# Altium schematic symbol library WE-TVSP.SchLib: 358 symbols (part 3 of 7)
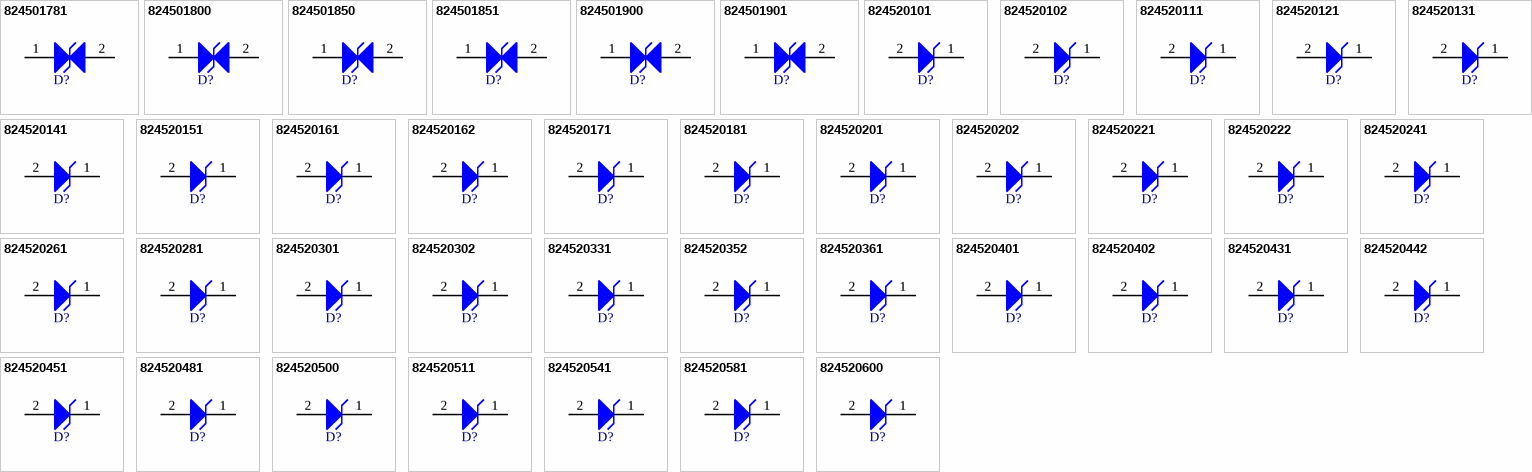
[diagram p10: symbols 824501781 to 824520600]

## 824520401
designator D?, comment 600W, 40VDC  (value not drawn)
WE-TVSP SMT Power TVS Diode, DO-214AA, Unidirectional, 600W, 40VDC; Manufacturer Part Number: 824520401; Manufacturer: Wurth Elektronik; Clamping Voltage: 64.5V; Operating Voltage (DC): 40V; (Reverse) Breakdown Voltage: 46.75V; (Reverse) Peak Pulse Current: 9.3A; ComponentLink1Description: Website Link; ComponentLink1URL: https://www.we-online.com/redexpert/article/824520401?ad; ComponentLink2Description: Datasheet Link; ComponentLink2URL: https://www.we-online.com/redexpert/spec/824520401?ad; Category: Surge Protection; Match Code: WE-TVSP; Mount: Surface Mount; Operating Temperature Max: 150°C; Operating Temperature Min: -65°C; Packaging: Tape and Reel; Case/Size Code: DO-214AA; Length: 4.32mm; Width: 3.62mm; Height: 2.4mm; Polarity: Unidirectional; Power Dissipation: 600W
footprint WE-TVSP_DO-214AA_Unidirectional
pins: 1 K, 2 A

## 824520402
designator D?, comment 600W, 400VDC  (value not drawn)
WE-TVSP SMT Power TVS Diode, DO-214AA, Unidirectional, 600W, 400VDC; Manufacturer Part Number: 824520402; Manufacturer: Wurth Elektronik; Clamping Voltage: 648V; Operating Voltage (DC): 400V; (Reverse) Breakdown Voltage: 470.5V; (Reverse) Peak Pulse Current: 0.9A; ComponentLink1Description: Website Link; ComponentLink1URL: https://www.we-online.com/redexpert/article/824520402?ad; ComponentLink2Description: Datasheet Link; ComponentLink2URL: https://www.we-online.com/redexpert/spec/824520402?ad; Category: Surge Protection; Match Code: WE-TVSP; Mount: Surface Mount; Operating Temperature Max: 150°C; Operating Temperature Min: -65°C; Packaging: Tape and Reel; Case/Size Code: DO-214AA; Length: 4.32mm; Width: 3.62mm; Height: 2.4mm; Polarity: Unidirectional; Power Dissipation: 600W
footprint WE-TVSP_DO-214AA_Unidirectional
pins: 1 K, 2 A

## 824520431
designator D?, comment 600W, 43VDC  (value not drawn)
WE-TVSP SMT Power TVS Diode, DO-214AA, Unidirectional, 600W, 43VDC; Manufacturer Part Number: 824520431; Manufacturer: Wurth Elektronik; Clamping Voltage: 69.4V; Operating Voltage (DC): 43V; (Reverse) Breakdown Voltage: 50.3V; (Reverse) Peak Pulse Current: 8.7A; ComponentLink1Description: Website Link; ComponentLink1URL: https://www.we-online.com/redexpert/article/824520431?ad; ComponentLink2Description: Datasheet Link; ComponentLink2URL: https://www.we-online.com/redexpert/spec/824520431?ad; Category: Surge Protection; Match Code: WE-TVSP; Mount: Surface Mount; Operating Temperature Max: 150°C; Operating Temperature Min: -65°C; Packaging: Tape and Reel; Case/Size Code: DO-214AA; Length: 4.32mm; Width: 3.62mm; Height: 2.4mm; Polarity: Unidirectional; Power Dissipation: 600W
footprint WE-TVSP_DO-214AA_Unidirectional
pins: 1 K, 2 A

## 824520442
designator D?, comment 600W, 440VDC  (value not drawn)
WE-TVSP SMT Power TVS Diode, DO-214AA, Unidirectional, 600W, 440VDC; Manufacturer Part Number: 824520442; Manufacturer: Wurth Elektronik; Clamping Voltage: 713V; Operating Voltage (DC): 440V; (Reverse) Breakdown Voltage: 517.5V; (Reverse) Peak Pulse Current: 0.9A; ComponentLink1Description: Website Link; ComponentLink1URL: https://www.we-online.com/redexpert/article/824520442?ad; ComponentLink2Description: Datasheet Link; ComponentLink2URL: https://www.we-online.com/redexpert/spec/824520442?ad; Category: Surge Protection; Match Code: WE-TVSP; Mount: Surface Mount; Operating Temperature Max: 150°C; Operating Temperature Min: -65°C; Packaging: Tape and Reel; Case/Size Code: DO-214AA; Length: 4.32mm; Width: 3.62mm; Height: 2.4mm; Polarity: Unidirectional; Power Dissipation: 600W
footprint WE-TVSP_DO-214AA_Unidirectional
pins: 1 K, 2 A

## 824520451
designator D?, comment 600W, 45VDC  (value not drawn)
WE-TVSP SMT Power TVS Diode, DO-214AA, Unidirectional, 600W, 45VDC; Manufacturer Part Number: 824520451; Manufacturer: Wurth Elektronik; Clamping Voltage: 72.7V; Operating Voltage (DC): 45V; (Reverse) Breakdown Voltage: 52.65V; (Reverse) Peak Pulse Current: 8.3A; ComponentLink1Description: Website Link; ComponentLink1URL: https://www.we-online.com/redexpert/article/824520451?ad; ComponentLink2Description: Datasheet Link; ComponentLink2URL: https://www.we-online.com/redexpert/spec/824520451?ad; Category: Surge Protection; Match Code: WE-TVSP; Mount: Surface Mount; Operating Temperature Max: 150°C; Operating Temperature Min: -65°C; Packaging: Tape and Reel; Case/Size Code: DO-214AA; Length: 4.32mm; Width: 3.62mm; Height: 2.4mm; Polarity: Unidirectional; Power Dissipation: 600W
footprint WE-TVSP_DO-214AA_Unidirectional
pins: 1 K, 2 A

## 824520481
designator D?, comment 600W, 48VDC  (value not drawn)
WE-TVSP SMT Power TVS Diode, DO-214AA, Unidirectional, 600W, 48VDC; Manufacturer Part Number: 824520481; Manufacturer: Wurth Elektronik; Clamping Voltage: 77.4V; Operating Voltage (DC): 48V; (Reverse) Breakdown Voltage: 56.1V; (Reverse) Peak Pulse Current: 7.8A; ComponentLink1Description: Website Link; ComponentLink1URL: https://www.we-online.com/redexpert/article/824520481?ad; ComponentLink2Description: Datasheet Link; ComponentLink2URL: https://www.we-online.com/redexpert/spec/824520481?ad; Category: Surge Protection; Match Code: WE-TVSP; Mount: Surface Mount; Operating Temperature Max: 150°C; Operating Temperature Min: -65°C; Packaging: Tape and Reel; Case/Size Code: DO-214AA; Length: 4.32mm; Width: 3.62mm; Height: 2.4mm; Polarity: Unidirectional; Power Dissipation: 600W
footprint WE-TVSP_DO-214AA_Unidirectional
pins: 1 K, 2 A

## 824520500
designator D?, comment 600W, 5VDC  (value not drawn)
WE-TVSP SMT Power TVS Diode, DO-214AA, Unidirectional, 600W, 5VDC; Manufacturer Part Number: 824520500; Manufacturer: Wurth Elektronik; Clamping Voltage: 9.2V; Operating Voltage (DC): 5V; (Reverse) Breakdown Voltage: 6.7V; (Reverse) Peak Pulse Current: 65.3A; ComponentLink1Description: Website Link; ComponentLink1URL: https://www.we-online.com/redexpert/article/824520500?ad; ComponentLink2Description: Datasheet Link; ComponentLink2URL: https://www.we-online.com/redexpert/spec/824520500?ad; Category: Surge Protection; Match Code: WE-TVSP; Mount: Surface Mount; Operating Temperature Max: 150°C; Operating Temperature Min: -65°C; Packaging: Tape and Reel; Case/Size Code: DO-214AA; Length: 4.32mm; Width: 3.62mm; Height: 2.4mm; Polarity: Unidirectional; Power Dissipation: 600W
footprint WE-TVSP_DO-214AA_Unidirectional
pins: 1 K, 2 A

## 824520511
designator D?, comment 600W, 51VDC  (value not drawn)
WE-TVSP SMT Power TVS Diode, DO-214AA, Unidirectional, 600W, 51VDC; Manufacturer Part Number: 824520511; Manufacturer: Wurth Elektronik; Clamping Voltage: 82.4V; Operating Voltage (DC): 51V; (Reverse) Breakdown Voltage: 59.7V; (Reverse) Peak Pulse Current: 7.3A; ComponentLink1Description: Website Link; ComponentLink1URL: https://www.we-online.com/redexpert/article/824520511?ad; ComponentLink2Description: Datasheet Link; ComponentLink2URL: https://www.we-online.com/redexpert/spec/824520511?ad; Category: Surge Protection; Match Code: WE-TVSP; Mount: Surface Mount; Operating Temperature Max: 150°C; Operating Temperature Min: -65°C; Packaging: Tape and Reel; Case/Size Code: DO-214AA; Length: 4.32mm; Width: 3.62mm; Height: 2.4mm; Polarity: Unidirectional; Power Dissipation: 600W
footprint WE-TVSP_DO-214AA_Unidirectional
pins: 1 K, 2 A

## 824520541
designator D?, comment 600W, 54VDC  (value not drawn)
WE-TVSP SMT Power TVS Diode, DO-214AA, Unidirectional, 600W, 54VDC; Manufacturer Part Number: 824520541; Manufacturer: Wurth Elektronik; Clamping Voltage: 87.1V; Operating Voltage (DC): 54V; (Reverse) Breakdown Voltage: 63.15V; (Reverse) Peak Pulse Current: 6.9A; ComponentLink1Description: Website Link; ComponentLink1URL: https://www.we-online.com/redexpert/article/824520541?ad; ComponentLink2Description: Datasheet Link; ComponentLink2URL: https://www.we-online.com/redexpert/spec/824520541?ad; Category: Surge Protection; Match Code: WE-TVSP; Mount: Surface Mount; Operating Temperature Max: 150°C; Operating Temperature Min: -65°C; Packaging: Tape and Reel; Case/Size Code: DO-214AA; Length: 4.32mm; Width: 3.62mm; Height: 2.4mm; Polarity: Unidirectional; Power Dissipation: 600W
footprint WE-TVSP_DO-214AA_Unidirectional
pins: 1 K, 2 A

## 824520581
designator D?, comment 600W, 58VDC  (value not drawn)
WE-TVSP SMT Power TVS Diode, DO-214AA, Unidirectional, 600W, 58VDC; Manufacturer Part Number: 824520581; Manufacturer: Wurth Elektronik; Clamping Voltage: 93.6V; Operating Voltage (DC): 58V; (Reverse) Breakdown Voltage: 67.8V; (Reverse) Peak Pulse Current: 6.5A; ComponentLink1Description: Website Link; ComponentLink1URL: https://www.we-online.com/redexpert/article/824520581?ad; ComponentLink2Description: Datasheet Link; ComponentLink2URL: https://www.we-online.com/redexpert/spec/824520581?ad; Category: Surge Protection; Match Code: WE-TVSP; Mount: Surface Mount; Operating Temperature Max: 150°C; Operating Temperature Min: -65°C; Packaging: Tape and Reel; Case/Size Code: DO-214AA; Length: 4.32mm; Width: 3.62mm; Height: 2.4mm; Polarity: Unidirectional; Power Dissipation: 600W
footprint WE-TVSP_DO-214AA_Unidirectional
pins: 1 K, 2 A

## 824520600
designator D?, comment 600W, 6VDC  (value not drawn)
WE-TVSP SMT Power TVS Diode, DO-214AA, Unidirectional, 600W, 6VDC; Manufacturer Part Number: 824520600; Manufacturer: Wurth Elektronik; Clamping Voltage: 10.3V; Operating Voltage (DC): 6V; (Reverse) Breakdown Voltage: 7.02V; (Reverse) Peak Pulse Current: 58.3A; ComponentLink1Description: Website Link; ComponentLink1URL: https://www.we-online.com/redexpert/article/824520600?ad; ComponentLink2Description: Datasheet Link; ComponentLink2URL: https://www.we-online.com/redexpert/spec/824520600?ad; Category: Surge Protection; Match Code: WE-TVSP; Mount: Surface Mount; Operating Temperature Max: 150°C; Operating Temperature Min: -65°C; Packaging: Tape and Reel; Case/Size Code: DO-214AA; Length: 4.32mm; Width: 3.62mm; Height: 2.4mm; Polarity: Unidirectional; Power Dissipation: 600W
footprint WE-TVSP_DO-214AA_Unidirectional
pins: 1 K, 2 A

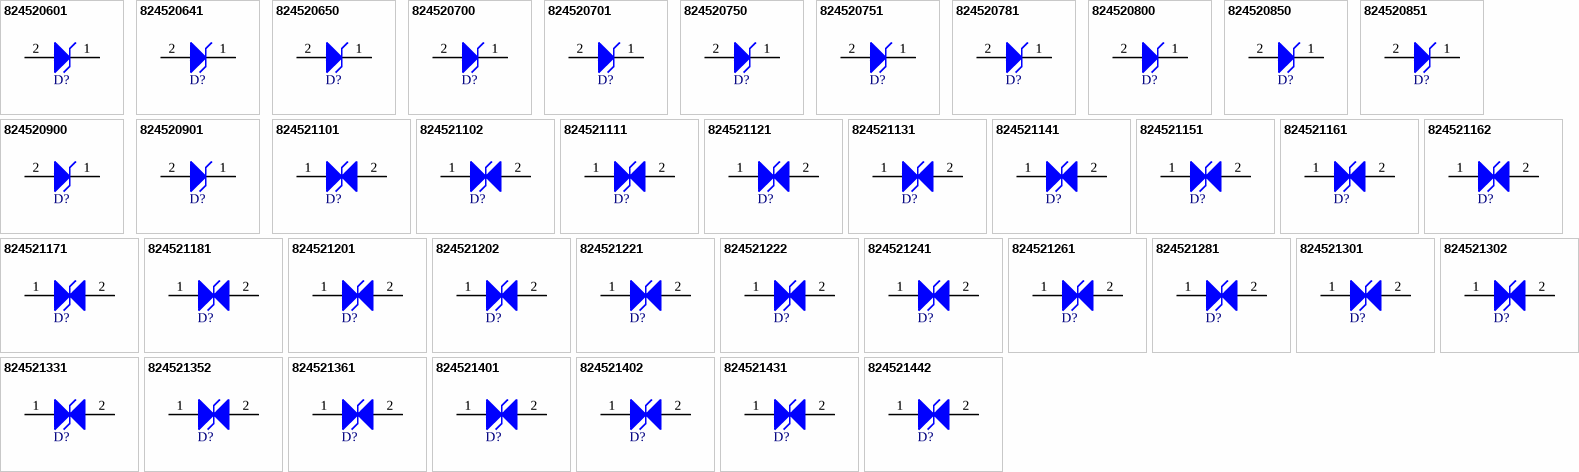
[diagram p3: symbols 824520601 to 824521442]

## 824520601
designator D?, comment 600W, 60VDC  (value not drawn)
WE-TVSP SMT Power TVS Diode, DO-214AA, Unidirectional, 600W, 60VDC; Manufacturer Part Number: 824520601; Manufacturer: Wurth Elektronik; Clamping Voltage: 96.8V; Operating Voltage (DC): 60V; (Reverse) Breakdown Voltage: 70.2V; (Reverse) Peak Pulse Current: 6.2A; ComponentLink1Description: Website Link; ComponentLink1URL: https://www.we-online.com/redexpert/article/824520601?ad; ComponentLink2Description: Datasheet Link; ComponentLink2URL: https://www.we-online.com/redexpert/spec/824520601?ad; Category: Surge Protection; Match Code: WE-TVSP; Mount: Surface Mount; Operating Temperature Max: 150°C; Operating Temperature Min: -65°C; Packaging: Tape and Reel; Case/Size Code: DO-214AA; Length: 4.32mm; Width: 3.62mm; Height: 2.4mm; Polarity: Unidirectional; Power Dissipation: 600W
footprint WE-TVSP_DO-214AA_Unidirectional
pins: 1 K, 2 A

## 824520641
designator D?, comment 600W, 64VDC  (value not drawn)
WE-TVSP SMT Power TVS Diode, DO-214AA, Unidirectional, 600W, 64VDC; Manufacturer Part Number: 824520641; Manufacturer: Wurth Elektronik; Clamping Voltage: 103V; Operating Voltage (DC): 64V; (Reverse) Breakdown Voltage: 74.85V; (Reverse) Peak Pulse Current: 5.9A; ComponentLink1Description: Website Link; ComponentLink1URL: https://www.we-online.com/redexpert/article/824520641?ad; ComponentLink2Description: Datasheet Link; ComponentLink2URL: https://www.we-online.com/redexpert/spec/824520641?ad; Category: Surge Protection; Match Code: WE-TVSP; Mount: Surface Mount; Operating Temperature Max: 150°C; Operating Temperature Min: -65°C; Packaging: Tape and Reel; Case/Size Code: DO-214AA; Length: 4.32mm; Width: 3.62mm; Height: 2.4mm; Polarity: Unidirectional; Power Dissipation: 600W
footprint WE-TVSP_DO-214AA_Unidirectional
pins: 1 K, 2 A

## 824520650
designator D?, comment 600W, 6.5VDC  (value not drawn)
WE-TVSP SMT Power TVS Diode, DO-214AA, Unidirectional, 600W, 6.5VDC; Manufacturer Part Number: 824520650; Manufacturer: Wurth Elektronik; Clamping Voltage: 11.2V; Operating Voltage (DC): 6.5V; (Reverse) Breakdown Voltage: 7.6V; (Reverse) Peak Pulse Current: 53.6A; ComponentLink1Description: Website Link; ComponentLink1URL: https://www.we-online.com/redexpert/article/824520650?ad; ComponentLink2Description: Datasheet Link; ComponentLink2URL: https://www.we-online.com/redexpert/spec/824520650?ad; Category: Surge Protection; Match Code: WE-TVSP; Mount: Surface Mount; Operating Temperature Max: 150°C; Operating Temperature Min: -65°C; Packaging: Tape and Reel; Case/Size Code: DO-214AA; Length: 4.32mm; Width: 3.62mm; Height: 2.4mm; Polarity: Unidirectional; Power Dissipation: 600W
footprint WE-TVSP_DO-214AA_Unidirectional
pins: 1 K, 2 A

## 824520700
designator D?, comment 600W, 7VDC  (value not drawn)
WE-TVSP SMT Power TVS Diode, DO-214AA, Unidirectional, 600W, 7VDC; Manufacturer Part Number: 824520700; Manufacturer: Wurth Elektronik; Clamping Voltage: 12V; Operating Voltage (DC): 7V; (Reverse) Breakdown Voltage: 8.19V; (Reverse) Peak Pulse Current: 50A; ComponentLink1Description: Website Link; ComponentLink1URL: https://www.we-online.com/redexpert/article/824520700?ad; ComponentLink2Description: Datasheet Link; ComponentLink2URL: https://www.we-online.com/redexpert/spec/824520700?ad; Category: Surge Protection; Match Code: WE-TVSP; Mount: Surface Mount; Operating Temperature Max: 150°C; Operating Temperature Min: -65°C; Packaging: Tape and Reel; Case/Size Code: DO-214AA; Length: 4.32mm; Width: 3.62mm; Height: 2.4mm; Polarity: Unidirectional; Power Dissipation: 600W
footprint WE-TVSP_DO-214AA_Unidirectional
pins: 1 K, 2 A

## 824520701
designator D?, comment 600W, 70VDC  (value not drawn)
WE-TVSP SMT Power TVS Diode, DO-214AA, Unidirectional, 600W, 70VDC; Manufacturer Part Number: 824520701; Manufacturer: Wurth Elektronik; Clamping Voltage: 113V; Operating Voltage (DC): 70V; (Reverse) Breakdown Voltage: 81.9V; (Reverse) Peak Pulse Current: 5.3A; ComponentLink1Description: Website Link; ComponentLink1URL: https://www.we-online.com/redexpert/article/824520701?ad; ComponentLink2Description: Datasheet Link; ComponentLink2URL: https://www.we-online.com/redexpert/spec/824520701?ad; Category: Surge Protection; Match Code: WE-TVSP; Mount: Surface Mount; Operating Temperature Max: 150°C; Operating Temperature Min: -65°C; Packaging: Tape and Reel; Case/Size Code: DO-214AA; Length: 4.32mm; Width: 3.62mm; Height: 2.4mm; Polarity: Unidirectional; Power Dissipation: 600W
footprint WE-TVSP_DO-214AA_Unidirectional
pins: 1 K, 2 A

## 824520750
designator D?, comment 600W, 7.5VDC  (value not drawn)
WE-TVSP SMT Power TVS Diode, DO-214AA, Unidirectional, 600W, 7.5VDC; Manufacturer Part Number: 824520750; Manufacturer: Wurth Elektronik; Clamping Voltage: 12.9V; Operating Voltage (DC): 7.5V; (Reverse) Breakdown Voltage: 8.77V; (Reverse) Peak Pulse Current: 46.6A; ComponentLink1Description: Website Link; ComponentLink1URL: https://www.we-online.com/redexpert/article/824520750?ad; ComponentLink2Description: Datasheet Link; ComponentLink2URL: https://www.we-online.com/redexpert/spec/824520750?ad; Category: Surge Protection; Match Code: WE-TVSP; Mount: Surface Mount; Operating Temperature Max: 150°C; Operating Temperature Min: -65°C; Packaging: Tape and Reel; Case/Size Code: DO-214AA; Length: 4.32mm; Width: 3.62mm; Height: 2.4mm; Polarity: Unidirectional; Power Dissipation: 600W
footprint WE-TVSP_DO-214AA_Unidirectional
pins: 1 K, 2 A

## 824520751
designator D?, comment 600W, 75VDC  (value not drawn)
WE-TVSP SMT Power TVS Diode, DO-214AA, Unidirectional, 600W, 75VDC; Manufacturer Part Number: 824520751; Manufacturer: Wurth Elektronik; Clamping Voltage: 121V; Operating Voltage (DC): 75V; (Reverse) Breakdown Voltage: 87.7V; (Reverse) Peak Pulse Current: 5A; ComponentLink1Description: Website Link; ComponentLink1URL: https://www.we-online.com/redexpert/article/824520751?ad; ComponentLink2Description: Datasheet Link; ComponentLink2URL: https://www.we-online.com/redexpert/spec/824520751?ad; Category: Surge Protection; Match Code: WE-TVSP; Mount: Surface Mount; Operating Temperature Max: 150°C; Operating Temperature Min: -65°C; Packaging: Tape and Reel; Case/Size Code: DO-214AA; Length: 4.32mm; Width: 3.62mm; Height: 2.4mm; Polarity: Unidirectional; Power Dissipation: 600W
footprint WE-TVSP_DO-214AA_Unidirectional
pins: 1 K, 2 A

## 824520781
designator D?, comment 600W, 78VDC  (value not drawn)
WE-TVSP SMT Power TVS Diode, DO-214AA, Unidirectional, 600W, 78VDC; Manufacturer Part Number: 824520781; Manufacturer: Wurth Elektronik; Clamping Voltage: 126V; Operating Voltage (DC): 78V; (Reverse) Breakdown Voltage: 91.25V; (Reverse) Peak Pulse Current: 4.8A; ComponentLink1Description: Website Link; ComponentLink1URL: https://www.we-online.com/redexpert/article/824520781?ad; ComponentLink2Description: Datasheet Link; ComponentLink2URL: https://www.we-online.com/redexpert/spec/824520781?ad; Category: Surge Protection; Match Code: WE-TVSP; Mount: Surface Mount; Operating Temperature Max: 150°C; Operating Temperature Min: -65°C; Packaging: Tape and Reel; Case/Size Code: DO-214AA; Length: 4.32mm; Width: 3.62mm; Height: 2.4mm; Polarity: Unidirectional; Power Dissipation: 600W
footprint WE-TVSP_DO-214AA_Unidirectional
pins: 1 K, 2 A

## 824520800
designator D?, comment 600W, 8VDC  (value not drawn)
WE-TVSP SMT Power TVS Diode, DO-214AA, Unidirectional, 600W, 8VDC; Manufacturer Part Number: 824520800; Manufacturer: Wurth Elektronik; Clamping Voltage: 13.6V; Operating Voltage (DC): 8V; (Reverse) Breakdown Voltage: 9.36V; (Reverse) Peak Pulse Current: 44.2A; ComponentLink1Description: Website Link; ComponentLink1URL: https://www.we-online.com/redexpert/article/824520800?ad; ComponentLink2Description: Datasheet Link; ComponentLink2URL: https://www.we-online.com/redexpert/spec/824520800?ad; Category: Surge Protection; Match Code: WE-TVSP; Mount: Surface Mount; Operating Temperature Max: 150°C; Operating Temperature Min: -65°C; Packaging: Tape and Reel; Case/Size Code: DO-214AA; Length: 4.32mm; Width: 3.62mm; Height: 2.4mm; Polarity: Unidirectional; Power Dissipation: 600W
footprint WE-TVSP_DO-214AA_Unidirectional
pins: 1 K, 2 A

## 824520850
designator D?, comment 600W, 8.5VDC  (value not drawn)
WE-TVSP SMT Power TVS Diode, DO-214AA, Unidirectional, 600W, 8.5VDC; Manufacturer Part Number: 824520850; Manufacturer: Wurth Elektronik; Clamping Voltage: 14.4V; Operating Voltage (DC): 8.5V; (Reverse) Breakdown Voltage: 9.92V; (Reverse) Peak Pulse Current: 41.7A; ComponentLink1Description: Website Link; ComponentLink1URL: https://www.we-online.com/redexpert/article/824520850?ad; ComponentLink2Description: Datasheet Link; ComponentLink2URL: https://www.we-online.com/redexpert/spec/824520850?ad; Category: Surge Protection; Match Code: WE-TVSP; Mount: Surface Mount; Operating Temperature Max: 150°C; Operating Temperature Min: -65°C; Packaging: Tape and Reel; Case/Size Code: DO-214AA; Length: 4.32mm; Width: 3.62mm; Height: 2.4mm; Polarity: Unidirectional; Power Dissipation: 600W
footprint WE-TVSP_DO-214AA_Unidirectional
pins: 1 K, 2 A

## 824520851
designator D?, comment 600W, 85VDC  (value not drawn)
WE-TVSP SMT Power TVS Diode, DO-214AA, Unidirectional, 600W, 85VDC; Manufacturer Part Number: 824520851; Manufacturer: Wurth Elektronik; Clamping Voltage: 137V; Operating Voltage (DC): 85V; (Reverse) Breakdown Voltage: 99.2V; (Reverse) Peak Pulse Current: 4.4A; ComponentLink1Description: Website Link; ComponentLink1URL: https://www.we-online.com/redexpert/article/824520851?ad; ComponentLink2Description: Datasheet Link; ComponentLink2URL: https://www.we-online.com/redexpert/spec/824520851?ad; Category: Surge Protection; Match Code: WE-TVSP; Mount: Surface Mount; Operating Temperature Max: 150°C; Operating Temperature Min: -65°C; Packaging: Tape and Reel; Case/Size Code: DO-214AA; Length: 4.32mm; Width: 3.62mm; Height: 2.4mm; Polarity: Unidirectional; Power Dissipation: 600W
footprint WE-TVSP_DO-214AA_Unidirectional
pins: 1 K, 2 A

## 824520900
designator D?, comment 600W, 9VDC  (value not drawn)
WE-TVSP SMT Power TVS Diode, DO-214AA, Unidirectional, 600W, 9VDC; Manufacturer Part Number: 824520900; Manufacturer: Wurth Elektronik; Clamping Voltage: 15.4V; Operating Voltage (DC): 9V; (Reverse) Breakdown Voltage: 10.55V; (Reverse) Peak Pulse Current: 39A; ComponentLink1Description: Website Link; ComponentLink1URL: https://www.we-online.com/redexpert/article/824520900?ad; ComponentLink2Description: Datasheet Link; ComponentLink2URL: https://www.we-online.com/redexpert/spec/824520900?ad; Category: Surge Protection; Match Code: WE-TVSP; Mount: Surface Mount; Operating Temperature Max: 150°C; Operating Temperature Min: -65°C; Packaging: Tape and Reel; Case/Size Code: DO-214AA; Length: 4.32mm; Width: 3.62mm; Height: 2.4mm; Polarity: Unidirectional; Power Dissipation: 600W
footprint WE-TVSP_DO-214AA_Unidirectional
pins: 1 K, 2 A

## 824520901
designator D?, comment 600W, 90VDC  (value not drawn)
WE-TVSP SMT Power TVS Diode, DO-214AA, Unidirectional, 600W, 90VDC; Manufacturer Part Number: 824520901; Manufacturer: Wurth Elektronik; Clamping Voltage: 146V; Operating Voltage (DC): 90V; (Reverse) Breakdown Voltage: 105.5V; (Reverse) Peak Pulse Current: 4.1A; ComponentLink1Description: Website Link; ComponentLink1URL: https://www.we-online.com/redexpert/article/824520901?ad; ComponentLink2Description: Datasheet Link; ComponentLink2URL: https://www.we-online.com/redexpert/spec/824520901?ad; Category: Surge Protection; Match Code: WE-TVSP; Mount: Surface Mount; Operating Temperature Max: 150°C; Operating Temperature Min: -65°C; Packaging: Tape and Reel; Case/Size Code: DO-214AA; Length: 4.32mm; Width: 3.62mm; Height: 2.4mm; Polarity: Unidirectional; Power Dissipation: 600W
footprint WE-TVSP_DO-214AA_Unidirectional
pins: 1 K, 2 A

## 824521101
designator D?, comment 600W, 10VDC  (value not drawn)
WE-TVSP SMT Power TVS Diode, DO-214AA, Bidirectional, 600W, 10VDC; Manufacturer Part Number: 824521101; Manufacturer: Wurth Elektronik; Clamping Voltage: 17V; Operating Voltage (DC): 10V; (Reverse) Breakdown Voltage: 11.7V; (Reverse) Peak Pulse Current: 35.3A; ComponentLink1Description: Website Link; ComponentLink1URL: https://www.we-online.com/redexpert/article/824521101?ad; ComponentLink2Description: Datasheet Link; ComponentLink2URL: https://www.we-online.com/redexpert/spec/824521101?ad; Category: Surge Protection; Match Code: WE-TVSP; Mount: Surface Mount; Operating Temperature Max: 150°C; Operating Temperature Min: -65°C; Packaging: Tape and Reel; Case/Size Code: DO-214AA; Length: 4.32mm; Width: 3.62mm; Height: 2.4mm; Polarity: Bidirectional; Power Dissipation: 600W
footprint WE-TVSP_DO-214AA_Bidirectional
pins: 1, 2

## 824521102
designator D?, comment 600W, 100VDC  (value not drawn)
WE-TVSP SMT Power TVS Diode, DO-214AA, Bidirectional, 600W, 100VDC; Manufacturer Part Number: 824521102; Manufacturer: Wurth Elektronik; Clamping Voltage: 162V; Operating Voltage (DC): 100V; (Reverse) Breakdown Voltage: 117V; (Reverse) Peak Pulse Current: 3.7A; ComponentLink1Description: Website Link; ComponentLink1URL: https://www.we-online.com/redexpert/article/824521102?ad; ComponentLink2Description: Datasheet Link; ComponentLink2URL: https://www.we-online.com/redexpert/spec/824521102?ad; Category: Surge Protection; Match Code: WE-TVSP; Mount: Surface Mount; Operating Temperature Max: 150°C; Operating Temperature Min: -65°C; Packaging: Tape and Reel; Case/Size Code: DO-214AA; Length: 4.32mm; Width: 3.62mm; Height: 2.4mm; Polarity: Bidirectional; Power Dissipation: 600W
footprint WE-TVSP_DO-214AA_Bidirectional
pins: 1, 2

## 824521111
designator D?, comment 600W, 11VDC  (value not drawn)
WE-TVSP SMT Power TVS Diode, DO-214AA, Bidirectional, 600W, 11VDC; Manufacturer Part Number: 824521111; Manufacturer: Wurth Elektronik; Clamping Voltage: 18.2V; Operating Voltage (DC): 11V; (Reverse) Breakdown Voltage: 12.85V; (Reverse) Peak Pulse Current: 33A; ComponentLink1Description: Website Link; ComponentLink1URL: https://www.we-online.com/redexpert/article/824521111?ad; ComponentLink2Description: Datasheet Link; ComponentLink2URL: https://www.we-online.com/redexpert/spec/824521111?ad; Category: Surge Protection; Match Code: WE-TVSP; Mount: Surface Mount; Operating Temperature Max: 150°C; Operating Temperature Min: -65°C; Packaging: Tape and Reel; Case/Size Code: DO-214AA; Length: 4.32mm; Width: 3.62mm; Height: 2.4mm; Polarity: Bidirectional; Power Dissipation: 600W
footprint WE-TVSP_DO-214AA_Bidirectional
pins: 1, 2

## 824521121
designator D?, comment 600W, 12VDC  (value not drawn)
WE-TVSP SMT Power TVS Diode, DO-214AA, Bidirectional, 600W, 12VDC; Manufacturer Part Number: 824521121; Manufacturer: Wurth Elektronik; Clamping Voltage: 19.9V; Operating Voltage (DC): 12V; (Reverse) Breakdown Voltage: 14V; (Reverse) Peak Pulse Current: 30.2A; ComponentLink1Description: Website Link; ComponentLink1URL: https://www.we-online.com/redexpert/article/824521121?ad; ComponentLink2Description: Datasheet Link; ComponentLink2URL: https://www.we-online.com/redexpert/spec/824521121?ad; Category: Surge Protection; Match Code: WE-TVSP; Mount: Surface Mount; Operating Temperature Max: 150°C; Operating Temperature Min: -65°C; Packaging: Tape and Reel; Case/Size Code: DO-214AA; Length: 4.32mm; Width: 3.62mm; Height: 2.4mm; Polarity: Bidirectional; Power Dissipation: 600W
footprint WE-TVSP_DO-214AA_Bidirectional
pins: 1, 2

## 824521131
designator D?, comment 600W, 13VDC  (value not drawn)
WE-TVSP SMT Power TVS Diode, DO-214AA, Bidirectional, 600W, 13VDC; Manufacturer Part Number: 824521131; Manufacturer: Wurth Elektronik; Clamping Voltage: 21.5V; Operating Voltage (DC): 13V; (Reverse) Breakdown Voltage: 15.15V; (Reverse) Peak Pulse Current: 28A; ComponentLink1Description: Website Link; ComponentLink1URL: https://www.we-online.com/redexpert/article/824521131?ad; ComponentLink2Description: Datasheet Link; ComponentLink2URL: https://www.we-online.com/redexpert/spec/824521131?ad; Category: Surge Protection; Match Code: WE-TVSP; Mount: Surface Mount; Operating Temperature Max: 150°C; Operating Temperature Min: -65°C; Packaging: Tape and Reel; Case/Size Code: DO-214AA; Length: 4.32mm; Width: 3.62mm; Height: 2.4mm; Polarity: Bidirectional; Power Dissipation: 600W
footprint WE-TVSP_DO-214AA_Bidirectional
pins: 1, 2

## 824521141
designator D?, comment 600W, 14VDC  (value not drawn)
WE-TVSP SMT Power TVS Diode, DO-214AA, Bidirectional, 600W, 14VDC; Manufacturer Part Number: 824521141; Manufacturer: Wurth Elektronik; Clamping Voltage: 23.2V; Operating Voltage (DC): 14V; (Reverse) Breakdown Voltage: 16.4V; (Reverse) Peak Pulse Current: 25.9A; ComponentLink1Description: Website Link; ComponentLink1URL: https://www.we-online.com/redexpert/article/824521141?ad; ComponentLink2Description: Datasheet Link; ComponentLink2URL: https://www.we-online.com/redexpert/spec/824521141?ad; Category: Surge Protection; Match Code: WE-TVSP; Mount: Surface Mount; Operating Temperature Max: 150°C; Operating Temperature Min: -65°C; Packaging: Tape and Reel; Case/Size Code: DO-214AA; Length: 4.32mm; Width: 3.62mm; Height: 2.4mm; Polarity: Bidirectional; Power Dissipation: 600W
footprint WE-TVSP_DO-214AA_Bidirectional
pins: 1, 2

## 824521151
designator D?, comment 600W, 15VDC  (value not drawn)
WE-TVSP SMT Power TVS Diode, DO-214AA, Bidirectional, 600W, 15VDC; Manufacturer Part Number: 824521151; Manufacturer: Wurth Elektronik; Clamping Voltage: 24.4V; Operating Voltage (DC): 15V; (Reverse) Breakdown Voltage: 17.6V; (Reverse) Peak Pulse Current: 24.6A; ComponentLink1Description: Website Link; ComponentLink1URL: https://www.we-online.com/redexpert/article/824521151?ad; ComponentLink2Description: Datasheet Link; ComponentLink2URL: https://www.we-online.com/redexpert/spec/824521151?ad; Category: Surge Protection; Match Code: WE-TVSP; Mount: Surface Mount; Operating Temperature Max: 150°C; Operating Temperature Min: -65°C; Packaging: Tape and Reel; Case/Size Code: DO-214AA; Length: 4.32mm; Width: 3.62mm; Height: 2.4mm; Polarity: Bidirectional; Power Dissipation: 600W
footprint WE-TVSP_DO-214AA_Bidirectional
pins: 1, 2

## 824521161
designator D?, comment 600W, 16VDC  (value not drawn)
WE-TVSP SMT Power TVS Diode, DO-214AA, Bidirectional, 600W, 16VDC; Manufacturer Part Number: 824521161; Manufacturer: Wurth Elektronik; Clamping Voltage: 26V; Operating Voltage (DC): 16V; (Reverse) Breakdown Voltage: 18.75V; (Reverse) Peak Pulse Current: 23.1A; ComponentLink1Description: Website Link; ComponentLink1URL: https://www.we-online.com/redexpert/article/824521161?ad; ComponentLink2Description: Datasheet Link; ComponentLink2URL: https://www.we-online.com/redexpert/spec/824521161?ad; Category: Surge Protection; Match Code: WE-TVSP; Mount: Surface Mount; Operating Temperature Max: 150°C; Operating Temperature Min: -65°C; Packaging: Tape and Reel; Case/Size Code: DO-214AA; Length: 4.32mm; Width: 3.62mm; Height: 2.4mm; Polarity: Bidirectional; Power Dissipation: 600W
footprint WE-TVSP_DO-214AA_Bidirectional
pins: 1, 2

## 824521162
designator D?, comment 600W, 160VDC  (value not drawn)
WE-TVSP SMT Power TVS Diode, DO-214AA, Bidirectional, 600W, 160VDC; Manufacturer Part Number: 824521162; Manufacturer: Wurth Elektronik; Clamping Voltage: 259V; Operating Voltage (DC): 160V; (Reverse) Breakdown Voltage: 187.5V; (Reverse) Peak Pulse Current: 2.3A; ComponentLink1Description: Website Link; ComponentLink1URL: https://www.we-online.com/redexpert/article/824521162?ad; ComponentLink2Description: Datasheet Link; ComponentLink2URL: https://www.we-online.com/redexpert/spec/824521162?ad; Category: Surge Protection; Match Code: WE-TVSP; Mount: Surface Mount; Operating Temperature Max: 150°C; Operating Temperature Min: -65°C; Packaging: Tape and Reel; Case/Size Code: DO-214AA; Length: 4.32mm; Width: 3.62mm; Height: 2.4mm; Polarity: Bidirectional; Power Dissipation: 600W
footprint WE-TVSP_DO-214AA_Bidirectional
pins: 1, 2

## 824521171
designator D?, comment 600W, 17VDC  (value not drawn)
WE-TVSP SMT Power TVS Diode, DO-214AA, Bidirectional, 600W, 17VDC; Manufacturer Part Number: 824521171; Manufacturer: Wurth Elektronik; Clamping Voltage: 27.6V; Operating Voltage (DC): 17V; (Reverse) Breakdown Voltage: 19.9V; (Reverse) Peak Pulse Current: 21.8A; ComponentLink1Description: Website Link; ComponentLink1URL: https://www.we-online.com/redexpert/article/824521171?ad; ComponentLink2Description: Datasheet Link; ComponentLink2URL: https://www.we-online.com/redexpert/spec/824521171?ad; Category: Surge Protection; Match Code: WE-TVSP; Mount: Surface Mount; Operating Temperature Max: 150°C; Operating Temperature Min: -65°C; Packaging: Tape and Reel; Case/Size Code: DO-214AA; Length: 4.32mm; Width: 3.62mm; Height: 2.4mm; Polarity: Bidirectional; Power Dissipation: 600W
footprint WE-TVSP_DO-214AA_Bidirectional
pins: 1, 2

## 824521181
designator D?, comment 600W, 18VDC  (value not drawn)
WE-TVSP SMT Power TVS Diode, DO-214AA, Bidirectional, 600W, 18VDC; Manufacturer Part Number: 824521181; Manufacturer: Wurth Elektronik; Clamping Voltage: 29.2V; Operating Voltage (DC): 18V; (Reverse) Breakdown Voltage: 21.05V; (Reverse) Peak Pulse Current: 20.6A; ComponentLink1Description: Website Link; ComponentLink1URL: https://www.we-online.com/redexpert/article/824521181?ad; ComponentLink2Description: Datasheet Link; ComponentLink2URL: https://www.we-online.com/redexpert/spec/824521181?ad; Category: Surge Protection; Match Code: WE-TVSP; Mount: Surface Mount; Operating Temperature Max: 150°C; Operating Temperature Min: -65°C; Packaging: Tape and Reel; Case/Size Code: DO-214AA; Length: 4.32mm; Width: 3.62mm; Height: 2.4mm; Polarity: Bidirectional; Power Dissipation: 600W
footprint WE-TVSP_DO-214AA_Bidirectional
pins: 1, 2

## 824521201
designator D?, comment 600W, 20VDC  (value not drawn)
WE-TVSP SMT Power TVS Diode, DO-214AA, Bidirectional, 600W, 20VDC; Manufacturer Part Number: 824521201; Manufacturer: Wurth Elektronik; Clamping Voltage: 32.4V; Operating Voltage (DC): 20V; (Reverse) Breakdown Voltage: 23.35V; (Reverse) Peak Pulse Current: 18.6A; ComponentLink1Description: Website Link; ComponentLink1URL: https://www.we-online.com/redexpert/article/824521201?ad; ComponentLink2Description: Datasheet Link; ComponentLink2URL: https://www.we-online.com/redexpert/spec/824521201?ad; Category: Surge Protection; Match Code: WE-TVSP; Mount: Surface Mount; Operating Temperature Max: 150°C; Operating Temperature Min: -65°C; Packaging: Tape and Reel; Case/Size Code: DO-214AA; Length: 4.32mm; Width: 3.62mm; Height: 2.4mm; Polarity: Bidirectional; Power Dissipation: 600W
footprint WE-TVSP_DO-214AA_Bidirectional
pins: 1, 2

## 824521202
designator D?, comment 600W, 200VDC  (value not drawn)
WE-TVSP SMT Power TVS Diode, DO-214AA, Bidirectional, 600W, 200VDC; Manufacturer Part Number: 824521202; Manufacturer: Wurth Elektronik; Clamping Voltage: 324V; Operating Voltage (DC): 200V; (Reverse) Breakdown Voltage: 235.5V; (Reverse) Peak Pulse Current: 1.9A; ComponentLink1Description: Website Link; ComponentLink1URL: https://www.we-online.com/redexpert/article/824521202?ad; ComponentLink2Description: Datasheet Link; ComponentLink2URL: https://www.we-online.com/redexpert/spec/824521202?ad; Category: Surge Protection; Match Code: WE-TVSP; Mount: Surface Mount; Operating Temperature Max: 150°C; Operating Temperature Min: -65°C; Packaging: Tape and Reel; Case/Size Code: DO-214AA; Length: 4.32mm; Width: 3.62mm; Height: 2.4mm; Polarity: Bidirectional; Power Dissipation: 600W
footprint WE-TVSP_DO-214AA_Bidirectional
pins: 1, 2

## 824521221
designator D?, comment 600W, 22VDC  (value not drawn)
WE-TVSP SMT Power TVS Diode, DO-214AA, Bidirectional, 600W, 22VDC; Manufacturer Part Number: 824521221; Manufacturer: Wurth Elektronik; Clamping Voltage: 35.5V; Operating Voltage (DC): 22V; (Reverse) Breakdown Voltage: 25.65V; (Reverse) Peak Pulse Current: 16.9A; ComponentLink1Description: Website Link; ComponentLink1URL: https://www.we-online.com/redexpert/article/824521221?ad; ComponentLink2Description: Datasheet Link; ComponentLink2URL: https://www.we-online.com/redexpert/spec/824521221?ad; Category: Surge Protection; Match Code: WE-TVSP; Mount: Surface Mount; Operating Temperature Max: 150°C; Operating Temperature Min: -65°C; Packaging: Tape and Reel; Case/Size Code: DO-214AA; Length: 4.32mm; Width: 3.62mm; Height: 2.4mm; Polarity: Bidirectional; Power Dissipation: 600W
footprint WE-TVSP_DO-214AA_Bidirectional
pins: 1, 2

## 824521222
designator D?, comment 600W, 220VDC  (value not drawn)
WE-TVSP SMT Power TVS Diode, DO-214AA, Bidirectional, 600W, 220VDC; Manufacturer Part Number: 824521222; Manufacturer: Wurth Elektronik; Clamping Voltage: 356V; Operating Voltage (DC): 220V; (Reverse) Breakdown Voltage: 259V; (Reverse) Peak Pulse Current: 1.7A; ComponentLink1Description: Website Link; ComponentLink1URL: https://www.we-online.com/redexpert/article/824521222?ad; ComponentLink2Description: Datasheet Link; ComponentLink2URL: https://www.we-online.com/redexpert/spec/824521222?ad; Category: Surge Protection; Match Code: WE-TVSP; Mount: Surface Mount; Operating Temperature Max: 150°C; Operating Temperature Min: -65°C; Packaging: Tape and Reel; Case/Size Code: DO-214AA; Length: 4.32mm; Width: 3.62mm; Height: 2.4mm; Polarity: Bidirectional; Power Dissipation: 600W
footprint WE-TVSP_DO-214AA_Bidirectional
pins: 1, 2

## 824521241
designator D?, comment 600W, 24VDC  (value not drawn)
WE-TVSP SMT Power TVS Diode, DO-214AA, Bidirectional, 600W, 24VDC; Manufacturer Part Number: 824521241; Manufacturer: Wurth Elektronik; Clamping Voltage: 38.9V; Operating Voltage (DC): 24V; (Reverse) Breakdown Voltage: 28.1V; (Reverse) Peak Pulse Current: 15.5A; ComponentLink1Description: Website Link; ComponentLink1URL: https://www.we-online.com/redexpert/article/824521241?ad; ComponentLink2Description: Datasheet Link; ComponentLink2URL: https://www.we-online.com/redexpert/spec/824521241?ad; Category: Surge Protection; Match Code: WE-TVSP; Mount: Surface Mount; Operating Temperature Max: 150°C; Operating Temperature Min: -65°C; Packaging: Tape and Reel; Case/Size Code: DO-214AA; Length: 4.32mm; Width: 3.62mm; Height: 2.4mm; Polarity: Bidirectional; Power Dissipation: 600W
footprint WE-TVSP_DO-214AA_Bidirectional
pins: 1, 2

## 824521261
designator D?, comment 600W, 26VDC  (value not drawn)
WE-TVSP SMT Power TVS Diode, DO-214AA, Bidirectional, 600W, 26VDC; Manufacturer Part Number: 824521261; Manufacturer: Wurth Elektronik; Clamping Voltage: 42.1V; Operating Voltage (DC): 26V; (Reverse) Breakdown Voltage: 30.4V; (Reverse) Peak Pulse Current: 14.3A; ComponentLink1Description: Website Link; ComponentLink1URL: https://www.we-online.com/redexpert/article/824521261?ad; ComponentLink2Description: Datasheet Link; ComponentLink2URL: https://www.we-online.com/redexpert/spec/824521261?ad; Category: Surge Protection; Match Code: WE-TVSP; Mount: Surface Mount; Operating Temperature Max: 150°C; Operating Temperature Min: -65°C; Packaging: Tape and Reel; Case/Size Code: DO-214AA; Length: 4.32mm; Width: 3.62mm; Height: 2.4mm; Polarity: Bidirectional; Power Dissipation: 600W
footprint WE-TVSP_DO-214AA_Bidirectional
pins: 1, 2

## 824521281
designator D?, comment 600W, 28VDC  (value not drawn)
WE-TVSP SMT Power TVS Diode, DO-214AA, Bidirectional, 600W, 28VDC; Manufacturer Part Number: 824521281; Manufacturer: Wurth Elektronik; Clamping Voltage: 45.4V; Operating Voltage (DC): 28V; (Reverse) Breakdown Voltage: 32.75V; (Reverse) Peak Pulse Current: 13.3A; ComponentLink1Description: Website Link; ComponentLink1URL: https://www.we-online.com/redexpert/article/824521281?ad; ComponentLink2Description: Datasheet Link; ComponentLink2URL: https://www.we-online.com/redexpert/spec/824521281?ad; Category: Surge Protection; Match Code: WE-TVSP; Mount: Surface Mount; Operating Temperature Max: 150°C; Operating Temperature Min: -65°C; Packaging: Tape and Reel; Case/Size Code: DO-214AA; Length: 4.32mm; Width: 3.62mm; Height: 2.4mm; Polarity: Bidirectional; Power Dissipation: 600W
footprint WE-TVSP_DO-214AA_Bidirectional
pins: 1, 2

## 824521301
designator D?, comment 600W, 30VDC  (value not drawn)
WE-TVSP SMT Power TVS Diode, DO-214AA, Bidirectional, 600W, 30VDC; Manufacturer Part Number: 824521301; Manufacturer: Wurth Elektronik; Clamping Voltage: 48.4V; Operating Voltage (DC): 30V; (Reverse) Breakdown Voltage: 35.05V; (Reverse) Peak Pulse Current: 12.4A; ComponentLink1Description: Website Link; ComponentLink1URL: https://www.we-online.com/redexpert/article/824521301?ad; ComponentLink2Description: Datasheet Link; ComponentLink2URL: https://www.we-online.com/redexpert/spec/824521301?ad; Category: Surge Protection; Match Code: WE-TVSP; Mount: Surface Mount; Operating Temperature Max: 150°C; Operating Temperature Min: -65°C; Packaging: Tape and Reel; Case/Size Code: DO-214AA; Length: 4.32mm; Width: 3.62mm; Height: 2.4mm; Polarity: Bidirectional; Power Dissipation: 600W
footprint WE-TVSP_DO-214AA_Bidirectional
pins: 1, 2

## 824521302
designator D?, comment 600W, 300VDC  (value not drawn)
WE-TVSP SMT Power TVS Diode, DO-214AA, Bidirectional, 600W, 300VDC; Manufacturer Part Number: 824521302; Manufacturer: Wurth Elektronik; Clamping Voltage: 486V; Operating Voltage (DC): 300V; (Reverse) Breakdown Voltage: 353V; (Reverse) Peak Pulse Current: 1.3A; ComponentLink1Description: Website Link; ComponentLink1URL: https://www.we-online.com/redexpert/article/824521302?ad; ComponentLink2Description: Datasheet Link; ComponentLink2URL: https://www.we-online.com/redexpert/spec/824521302?ad; Category: Surge Protection; Match Code: WE-TVSP; Mount: Surface Mount; Operating Temperature Max: 150°C; Operating Temperature Min: -65°C; Packaging: Tape and Reel; Case/Size Code: DO-214AA; Length: 4.32mm; Width: 3.62mm; Height: 2.4mm; Polarity: Bidirectional; Power Dissipation: 600W
footprint WE-TVSP_DO-214AA_Bidirectional
pins: 1, 2

## 824521331
designator D?, comment 600W, 33VDC  (value not drawn)
WE-TVSP SMT Power TVS Diode, DO-214AA, Bidirectional, 600W, 33VDC; Manufacturer Part Number: 824521331; Manufacturer: Wurth Elektronik; Clamping Voltage: 53.3V; Operating Voltage (DC): 33V; (Reverse) Breakdown Voltage: 38.65V; (Reverse) Peak Pulse Current: 11.3A; ComponentLink1Description: Website Link; ComponentLink1URL: https://www.we-online.com/redexpert/article/824521331?ad; ComponentLink2Description: Datasheet Link; ComponentLink2URL: https://www.we-online.com/redexpert/spec/824521331?ad; Category: Surge Protection; Match Code: WE-TVSP; Mount: Surface Mount; Operating Temperature Max: 150°C; Operating Temperature Min: -65°C; Packaging: Tape and Reel; Case/Size Code: DO-214AA; Length: 4.32mm; Width: 3.62mm; Height: 2.4mm; Polarity: Bidirectional; Power Dissipation: 600W
footprint WE-TVSP_DO-214AA_Bidirectional
pins: 1, 2

## 824521352
designator D?, comment 600W, 350VDC  (value not drawn)
WE-TVSP SMT Power TVS Diode, DO-214AA, Bidirectional, 600W, 350VDC; Manufacturer Part Number: 824521352; Manufacturer: Wurth Elektronik; Clamping Voltage: 567V; Operating Voltage (DC): 350V; (Reverse) Breakdown Voltage: 411.5V; (Reverse) Peak Pulse Current: 1.1A; ComponentLink1Description: Website Link; ComponentLink1URL: https://www.we-online.com/redexpert/article/824521352?ad; ComponentLink2Description: Datasheet Link; ComponentLink2URL: https://www.we-online.com/redexpert/spec/824521352?ad; Category: Surge Protection; Match Code: WE-TVSP; Mount: Surface Mount; Operating Temperature Max: 150°C; Operating Temperature Min: -65°C; Packaging: Tape and Reel; Case/Size Code: DO-214AA; Length: 4.32mm; Width: 3.62mm; Height: 2.4mm; Polarity: Bidirectional; Power Dissipation: 600W
footprint WE-TVSP_DO-214AA_Bidirectional
pins: 1, 2

## 824521361
designator D?, comment 600W, 36VDC  (value not drawn)
WE-TVSP SMT Power TVS Diode, DO-214AA, Bidirectional, 600W, 36VDC; Manufacturer Part Number: 824521361; Manufacturer: Wurth Elektronik; Clamping Voltage: 58.1V; Operating Voltage (DC): 36V; (Reverse) Breakdown Voltage: 42.1V; (Reverse) Peak Pulse Current: 10.4A; ComponentLink1Description: Website Link; ComponentLink1URL: https://www.we-online.com/redexpert/article/824521361?ad; ComponentLink2Description: Datasheet Link; ComponentLink2URL: https://www.we-online.com/redexpert/spec/824521361?ad; Category: Surge Protection; Match Code: WE-TVSP; Mount: Surface Mount; Operating Temperature Max: 150°C; Operating Temperature Min: -65°C; Packaging: Tape and Reel; Case/Size Code: DO-214AA; Length: 4.32mm; Width: 3.62mm; Height: 2.4mm; Polarity: Bidirectional; Power Dissipation: 600W
footprint WE-TVSP_DO-214AA_Bidirectional
pins: 1, 2

## 824521401
designator D?, comment 600W, 40VDC  (value not drawn)
WE-TVSP SMT Power TVS Diode, DO-214AA, Bidirectional, 600W, 40VDC; Manufacturer Part Number: 824521401; Manufacturer: Wurth Elektronik; Clamping Voltage: 64.5V; Operating Voltage (DC): 40V; (Reverse) Breakdown Voltage: 46.75V; (Reverse) Peak Pulse Current: 9.3A; ComponentLink1Description: Website Link; ComponentLink1URL: https://www.we-online.com/redexpert/article/824521401?ad; ComponentLink2Description: Datasheet Link; ComponentLink2URL: https://www.we-online.com/redexpert/spec/824521401?ad; Category: Surge Protection; Match Code: WE-TVSP; Mount: Surface Mount; Operating Temperature Max: 150°C; Operating Temperature Min: -65°C; Packaging: Tape and Reel; Case/Size Code: DO-214AA; Length: 4.32mm; Width: 3.62mm; Height: 2.4mm; Polarity: Bidirectional; Power Dissipation: 600W
footprint WE-TVSP_DO-214AA_Bidirectional
pins: 1, 2

## 824521402
designator D?, comment 600W, 400VDC  (value not drawn)
WE-TVSP SMT Power TVS Diode, DO-214AA, Bidirectional, 600W, 400VDC; Manufacturer Part Number: 824521402; Manufacturer: Wurth Elektronik; Clamping Voltage: 648V; Operating Voltage (DC): 400V; (Reverse) Breakdown Voltage: 470.5V; (Reverse) Peak Pulse Current: 0.9A; ComponentLink1Description: Website Link; ComponentLink1URL: https://www.we-online.com/redexpert/article/824521402?ad; ComponentLink2Description: Datasheet Link; ComponentLink2URL: https://www.we-online.com/redexpert/spec/824521402?ad; Category: Surge Protection; Match Code: WE-TVSP; Mount: Surface Mount; Operating Temperature Max: 150°C; Operating Temperature Min: -65°C; Packaging: Tape and Reel; Case/Size Code: DO-214AA; Length: 4.32mm; Width: 3.62mm; Height: 2.4mm; Polarity: Bidirectional; Power Dissipation: 600W
footprint WE-TVSP_DO-214AA_Bidirectional
pins: 1, 2

## 824521431
designator D?, comment 600W, 43VDC  (value not drawn)
WE-TVSP SMT Power TVS Diode, DO-214AA, Bidirectional, 600W, 43VDC; Manufacturer Part Number: 824521431; Manufacturer: Wurth Elektronik; Clamping Voltage: 69.4V; Operating Voltage (DC): 43V; (Reverse) Breakdown Voltage: 50.3V; (Reverse) Peak Pulse Current: 8.7A; ComponentLink1Description: Website Link; ComponentLink1URL: https://www.we-online.com/redexpert/article/824521431?ad; ComponentLink2Description: Datasheet Link; ComponentLink2URL: https://www.we-online.com/redexpert/spec/824521431?ad; Category: Surge Protection; Match Code: WE-TVSP; Mount: Surface Mount; Operating Temperature Max: 150°C; Operating Temperature Min: -65°C; Packaging: Tape and Reel; Case/Size Code: DO-214AA; Length: 4.32mm; Width: 3.62mm; Height: 2.4mm; Polarity: Bidirectional; Power Dissipation: 600W
footprint WE-TVSP_DO-214AA_Bidirectional
pins: 1, 2

## 824521442
designator D?, comment 600W, 440VDC  (value not drawn)
WE-TVSP SMT Power TVS Diode, DO-214AA, Bidirectional, 600W, 440VDC; Manufacturer Part Number: 824521442; Manufacturer: Wurth Elektronik; Clamping Voltage: 713V; Operating Voltage (DC): 440V; (Reverse) Breakdown Voltage: 517.5V; (Reverse) Peak Pulse Current: 0.9A; ComponentLink1Description: Website Link; ComponentLink1URL: https://www.we-online.com/redexpert/article/824521442?ad; ComponentLink2Description: Datasheet Link; ComponentLink2URL: https://www.we-online.com/redexpert/spec/824521442?ad; Category: Surge Protection; Match Code: WE-TVSP; Mount: Surface Mount; Operating Temperature Max: 150°C; Operating Temperature Min: -65°C; Packaging: Tape and Reel; Case/Size Code: DO-214AA; Length: 4.32mm; Width: 3.62mm; Height: 2.4mm; Polarity: Bidirectional; Power Dissipation: 600W
footprint WE-TVSP_DO-214AA_Bidirectional
pins: 1, 2

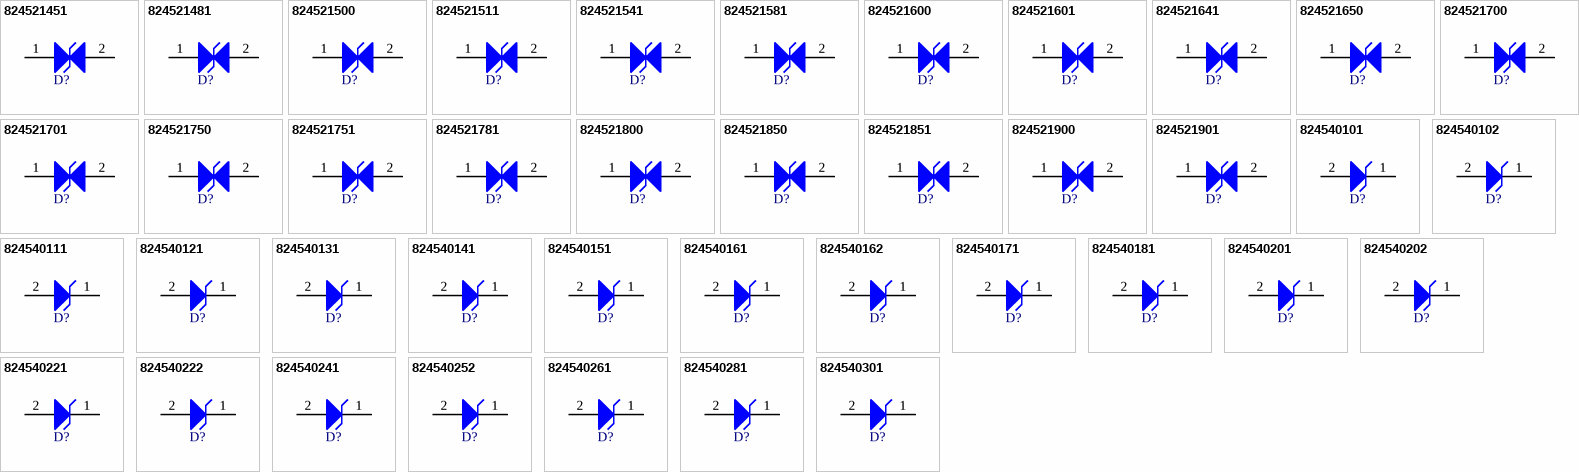
[diagram p4: symbols 824521451 to 824540301]

## 824521451
designator D?, comment 600W, 45VDC  (value not drawn)
WE-TVSP SMT Power TVS Diode, DO-214AA, Bidirectional, 600W, 45VDC; Manufacturer Part Number: 824521451; Manufacturer: Wurth Elektronik; Clamping Voltage: 72.7V; Operating Voltage (DC): 45V; (Reverse) Breakdown Voltage: 52.65V; (Reverse) Peak Pulse Current: 8.3A; ComponentLink1Description: Website Link; ComponentLink1URL: https://www.we-online.com/redexpert/article/824521451?ad; ComponentLink2Description: Datasheet Link; ComponentLink2URL: https://www.we-online.com/redexpert/spec/824521451?ad; Category: Surge Protection; Match Code: WE-TVSP; Mount: Surface Mount; Operating Temperature Max: 150°C; Operating Temperature Min: -65°C; Packaging: Tape and Reel; Case/Size Code: DO-214AA; Length: 4.32mm; Width: 3.62mm; Height: 2.4mm; Polarity: Bidirectional; Power Dissipation: 600W
footprint WE-TVSP_DO-214AA_Bidirectional
pins: 1, 2

## 824521481
designator D?, comment 600W, 48VDC  (value not drawn)
WE-TVSP SMT Power TVS Diode, DO-214AA, Bidirectional, 600W, 48VDC; Manufacturer Part Number: 824521481; Manufacturer: Wurth Elektronik; Clamping Voltage: 77.4V; Operating Voltage (DC): 48V; (Reverse) Breakdown Voltage: 56.1V; (Reverse) Peak Pulse Current: 7.8A; ComponentLink1Description: Website Link; ComponentLink1URL: https://www.we-online.com/redexpert/article/824521481?ad; ComponentLink2Description: Datasheet Link; ComponentLink2URL: https://www.we-online.com/redexpert/spec/824521481?ad; Category: Surge Protection; Match Code: WE-TVSP; Mount: Surface Mount; Operating Temperature Max: 150°C; Operating Temperature Min: -65°C; Packaging: Tape and Reel; Case/Size Code: DO-214AA; Length: 4.32mm; Width: 3.62mm; Height: 2.4mm; Polarity: Bidirectional; Power Dissipation: 600W
footprint WE-TVSP_DO-214AA_Bidirectional
pins: 1, 2

## 824521500
designator D?, comment 600W, 5VDC  (value not drawn)
WE-TVSP SMT Power TVS Diode, DO-214AA, Bidirectional, 600W, 5VDC; Manufacturer Part Number: 824521500; Manufacturer: Wurth Elektronik; Clamping Voltage: 9.2V; Operating Voltage (DC): 5V; (Reverse) Breakdown Voltage: 6.7V; (Reverse) Peak Pulse Current: 65.3A; ComponentLink1Description: Website Link; ComponentLink1URL: https://www.we-online.com/redexpert/article/824521500?ad; ComponentLink2Description: Datasheet Link; ComponentLink2URL: https://www.we-online.com/redexpert/spec/824521500?ad; Category: Surge Protection; Match Code: WE-TVSP; Mount: Surface Mount; Operating Temperature Max: 150°C; Operating Temperature Min: -65°C; Packaging: Tape and Reel; Case/Size Code: DO-214AA; Length: 4.32mm; Width: 3.62mm; Height: 2.4mm; Polarity: Bidirectional; Power Dissipation: 600W
footprint WE-TVSP_DO-214AA_Bidirectional
pins: 1, 2

## 824521511
designator D?, comment 600W, 51VDC  (value not drawn)
WE-TVSP SMT Power TVS Diode, DO-214AA, Bidirectional, 600W, 51VDC; Manufacturer Part Number: 824521511; Manufacturer: Wurth Elektronik; Clamping Voltage: 82.4V; Operating Voltage (DC): 51V; (Reverse) Breakdown Voltage: 59.7V; (Reverse) Peak Pulse Current: 7.3A; ComponentLink1Description: Website Link; ComponentLink1URL: https://www.we-online.com/redexpert/article/824521511?ad; ComponentLink2Description: Datasheet Link; ComponentLink2URL: https://www.we-online.com/redexpert/spec/824521511?ad; Category: Surge Protection; Match Code: WE-TVSP; Mount: Surface Mount; Operating Temperature Max: 150°C; Operating Temperature Min: -65°C; Packaging: Tape and Reel; Case/Size Code: DO-214AA; Length: 4.32mm; Width: 3.62mm; Height: 2.4mm; Polarity: Bidirectional; Power Dissipation: 600W
footprint WE-TVSP_DO-214AA_Bidirectional
pins: 1, 2